# Altium schematic symbol library TVS2200.SchLib: 1 symbol
Pins are listed as number, name and electrical type; pins without a type are passive.

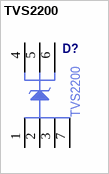
[diagram p0: symbol TVS2200]

## TVS2200
designator D?  Manufacturer Part Number: TVS2200  (hidden comment: *)
pins: 1 GND, 2 GND, 3 GND, 4 IN, 5 IN, 6 IN, 7 GND